# EAGLE library part TPS25200-Q1 (library My_TI)
TPS25200-Q1 5-V eFuse With Precision Adjustable Current Limit and Overvoltage Clamp. Datasheet <http://www.ti.com/lit/ds/symlink/tps25200-q1.pdf>
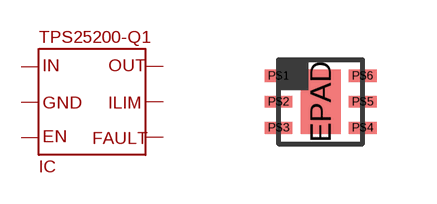
[diagram p26: symbol with the pads of PWSON6; footprint PWSON6]

Designator prefix IC

## TPS25200-Q1  [PWSON6]
EPAD  P$2
P$1  P$1
P$2  P$2
P$3  P$3
P$4  P$4
P$5  P$5
P$6  P$6

## Footprint PWSON6 (pad centres in mm)
smd 1 x 1.6: EPAD 0,0
smd 0.7 x 0.3: P$1 -1.05,0.65; P$2 -1.05,0; P$3 -1.05,-0.65; P$4 1.05,-0.65; P$5 1.05,0; P$6 1.05,0.65